# Altium footprint library PCB - POWER MODULE - TI MICROSIP-14 SIE0014A.PCBLIB: 1 footprints
Each footprint in its own frame and in the unit in brackets; x right, y up, seen from the top. Pads: shape width x height; smd on the part's side, far side on the other; paste and mask are expansions set on the pad; w line width, h text height; cw(c..) or ccw(c..) is an arc to the next point about the centre after c.
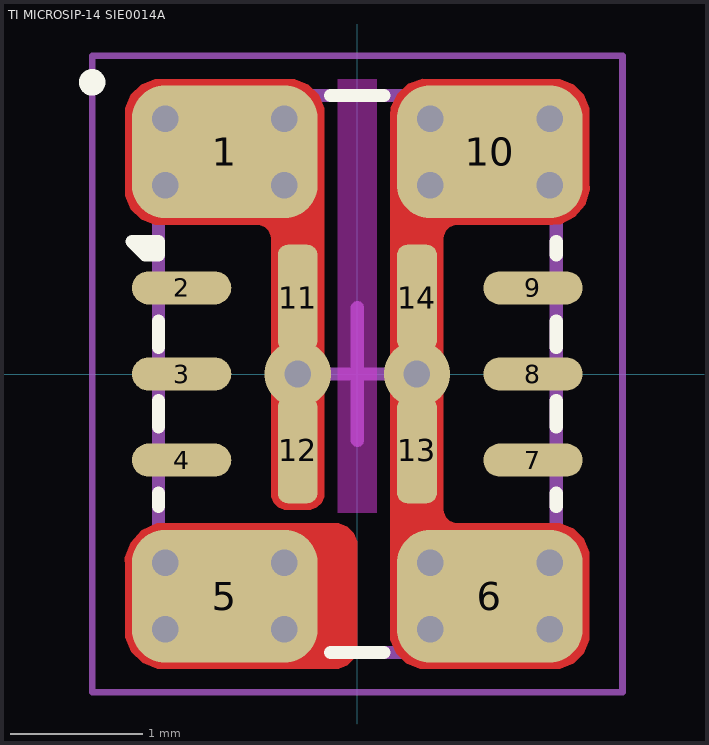
[diagram p0: the footprint, top view; thin cyan lines are the x and y axes]

## TI MICROSIP-14 SIE0014A [mm] "uSIP, 14-Leads, Body 3.0x4.00mm"
height 1.6
pads (14):
  rrect50% 1.4x1 smd mask+0: 1(-1,1.675) 5(-1,-1.675) 6(1,-1.675) 10(1,1.675)
  oval 0.75x0.25 smd mask+0: 2(-1.325,0.65) 3(-1.325,0) 4(-1.325,-0.65) 7(1.325,-0.65) 8(1.325,0) 9(1.325,0.65)
  rrect50% 0.3x0.8 smd mask+0: 11(-0.45,0.575) 12(-0.45,-0.575) 13(0.45,-0.575) 14(0.45,0.575)
via 0.45,0 diameter 0.5 hole 0.2
via -0.45,0 diameter 0.5 hole 0.2
via 0.55,-1.925 diameter 0.5 hole 0.2
via 0.55,-1.425 diameter 0.5 hole 0.2
via 0.55,1.425 diameter 0.5 hole 0.2
via 0.55,1.925 diameter 0.5 hole 0.2
via 1.45,1.925 diameter 0.5 hole 0.2
via 1.45,1.425 diameter 0.5 hole 0.2
via 1.45,-1.425 diameter 0.5 hole 0.2
via 1.45,-1.925 diameter 0.5 hole 0.2
via -0.55,-1.925 diameter 0.5 hole 0.2
via -0.55,-1.425 diameter 0.5 hole 0.2
via -0.55,1.425 diameter 0.5 hole 0.2
via -0.55,1.925 diameter 0.5 hole 0.2
via -1.45,1.925 diameter 0.5 hole 0.2
via -1.45,1.425 diameter 0.5 hole 0.2
via -1.45,-1.425 diameter 0.5 hole 0.2
via -1.45,-1.925 diameter 0.5 hole 0.2
Top Layer:
  region: -0.375,-1.025 -0.35,-1.025 -0.304,-1.006 -0.269,-0.971 -0.25,-0.925 -0.25,-0.9 -0.25,1.95 -0.25,2.005 -0.292,2.106 -0.369,2.183 -0.47,2.225 -0.525,2.225 -1.475,2.225 -1.53,2.225 -1.631,2.183 -1.708,2.106 -1.75,2.005 -1.75,1.95 -1.75,1.4 -1.75,1.345 -1.708,1.244 -1.631,1.167 -1.53,1.125 -1.475,1.125 -0.75,1.125 -0.73,1.123 -0.694,1.108 -0.667,1.081 -0.652,1.045 -0.65,1.025 -0.65,-0.9 -0.65,-0.925 -0.631,-0.971 -0.596,-1.006 -0.55,-1.025 -0.525,-1.025
  region: 1.75,-1.95 1.75,-2.005 1.708,-2.106 1.631,-2.183 1.53,-2.225 1.475,-2.225 0.525,-2.225 0.47,-2.225 0.369,-2.183 0.292,-2.106 0.25,-2.005 0.25,-1.95 0.25,1.95 0.252,2.007 0.301,2.111 0.385,2.188 0.493,2.227 0.55,2.225 1.475,2.225 1.53,2.225 1.631,2.183 1.708,2.106 1.75,2.005 1.75,1.95 1.75,1.45 1.755,1.39 1.719,1.276 1.641,1.185 1.535,1.13 1.475,1.125 0.75,1.125 0.73,1.123 0.694,1.108 0.667,1.081 0.652,1.045 0.65,1.025 0.65,-1.025 0.652,-1.045 0.667,-1.081 0.694,-1.108 0.73,-1.123 0.75,-1.125 1.475,-1.125 1.53,-1.125 1.631,-1.167 1.708,-1.244 1.75,-1.345 1.75,-1.4
  region: 0,-2.05 0,-2.085 -0.027,-2.149 -0.076,-2.198 -0.14,-2.225 -0.175,-2.225 -1.45,-2.225 -1.51,-2.225 -1.62,-2.179 -1.704,-2.095 -1.75,-1.985 -1.75,-1.925 -1.75,-1.45 -1.752,-1.388 -1.71,-1.271 -1.625,-1.18 -1.512,-1.127 -1.45,-1.125 -0.175,-1.125 -0.14,-1.125 -0.076,-1.152 -0.027,-1.201 0,-1.265 0,-1.3
Top Layer keep-out:
  rectangle: -0.15,-1.05 0.15,2.225
Top Overlay:
  circle w0.1: c-2,2.2 r0.05
  lines w0.1: -1.5,-1 -1.5,-0.9 ; -1.5,-0.4 -1.5,-0.2 ; -1.5,0.2 -1.5,0.4 ; -0.2,-2.1 0.2,-2.1 ; -0.2,2.1 0.2,2.1 ; 1.5,-1 1.5,-0.9 ; 1.5,-0.4 1.5,-0.2 ; 1.5,0.2 1.5,0.4 ; 1.5,0.9 1.5,1 ; -1.7,1 -1.6,0.9 -1.5,0.9 -1.5,1 -1.7,1
Mechanical 13:
  lines w0.1: -1.5,-2.1 1.5,-2.1 1.5,2.1 -1.5,2.1 -1.5,-2.1
Mechanical 15:
  lines w0.05: -2,-2.4 2,-2.4 2,2.4 -2,2.4 -2,-2.4
  lines w0.1: -0.5,0 0.5,0 ; 0,-0.5 0,0.5
3D body "TI uSIP-14 SIE.step": height 1.6, standoff 0, extent -1.55,-2.05 1.55,2.05